# Altium schematic symbol library Suppressor_diode.SchLib: 1 symbol
Pins are listed as number, name and electrical type; pins without a type are passive.

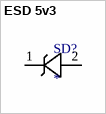
[diagram p0: symbol ESD 5v3]

## ESD 5v3
designator SD?
footprint SOD2512X110N
footprint SODFL1608X70N
pins: 1 Cathode, 2 Anode